# EAGLE library part AVR-ISP-POGO (library Pnoxi-PogoPin_Adapters)
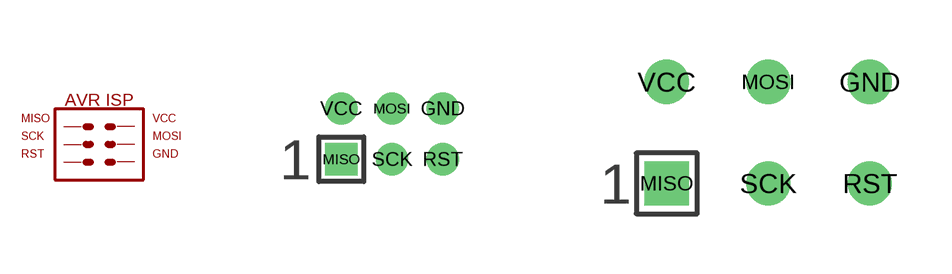
[diagram p0: symbol with the pads of AVR-ISP-6(2X3)-VIAS_POGOPIN_1.27MM; footprints AVR-ISP-6(2X3)-VIAS_POGOPIN_1.27MM, AVR-ISP-6(2X3)-VIAS_POGOPIN_2.54MM]

Designator prefix -

## AVR-ISP-POGO_6(2X3)-VIAS_1.27MM  [AVR-ISP-6(2X3)-VIAS_POGOPIN_1.27MM]
GND  GND  pas
MISO  MISO  pas
MOSI  MOSI  pas
RST  RST  pas
SCK  SCK  pas
VCC  VCC  pas

## AVR-ISP-POGO_6(2X3)-VIAS_2.54MM  [AVR-ISP-6(2X3)-VIAS_POGOPIN_2.54MM]
Pads as for AVR-ISP-6(2X3)-VIAS_POGOPIN_1.27MM

## AVR-ISP-POGO_6(2X3)-SMD_1.27MM  [AVR-ISP-6(2X3)-SMD_POGOPIN_1.27MM]
Pads as for AVR-ISP-6(2X3)-VIAS_POGOPIN_1.27MM

## AVR-ISP-POGO_6(2X3)-SMD_2.54MM  [AVR-ISP-6(2X3)-SMD_POGOPIN_2.54MM]
Pads as for AVR-ISP-6(2X3)-VIAS_POGOPIN_1.27MM

## Footprint AVR-ISP-6(2X3)-VIAS_POGOPIN_1.27MM (pad centres in mm)
drill 0.3: GND 1.27,0.635; MOSI 0,0.635; RST 1.27,-0.635; SCK 0,-0.635; VCC -1.27,0.635
drill 0.3 square: MISO -1.27,-0.635

## Footprint AVR-ISP-6(2X3)-VIAS_POGOPIN_2.54MM (pad centres in mm)
drill 0.6: GND 2.54,1.27; MOSI 0,1.27; RST 2.54,-1.27; SCK 0,-1.27; VCC -2.54,1.27
drill 0.6 square: MISO -2.54,-1.27

## Footprint AVR-ISP-6(2X3)-SMD_POGOPIN_1.27MM (pad centres in mm)
smd 0.762 x 0.762: GND 1.27,0.635; MISO -1.27,-0.635; MOSI 0,0.635; RST 1.27,-0.635; SCK 0,-0.635; VCC -1.27,0.635

## Footprint AVR-ISP-6(2X3)-SMD_POGOPIN_2.54MM (pad centres in mm)
smd 1.422 x 1.422: GND 2.54,1.27; MISO -2.54,-1.27; MOSI 0,1.27; RST 2.54,-1.27; SCK 0,-1.27; VCC -2.54,1.27